# Altium schematic symbol library mmWave_RIS_Lumo.SchLib: 8 symbols
Pins are listed as number, name and electrical type; pins without a type are passive.

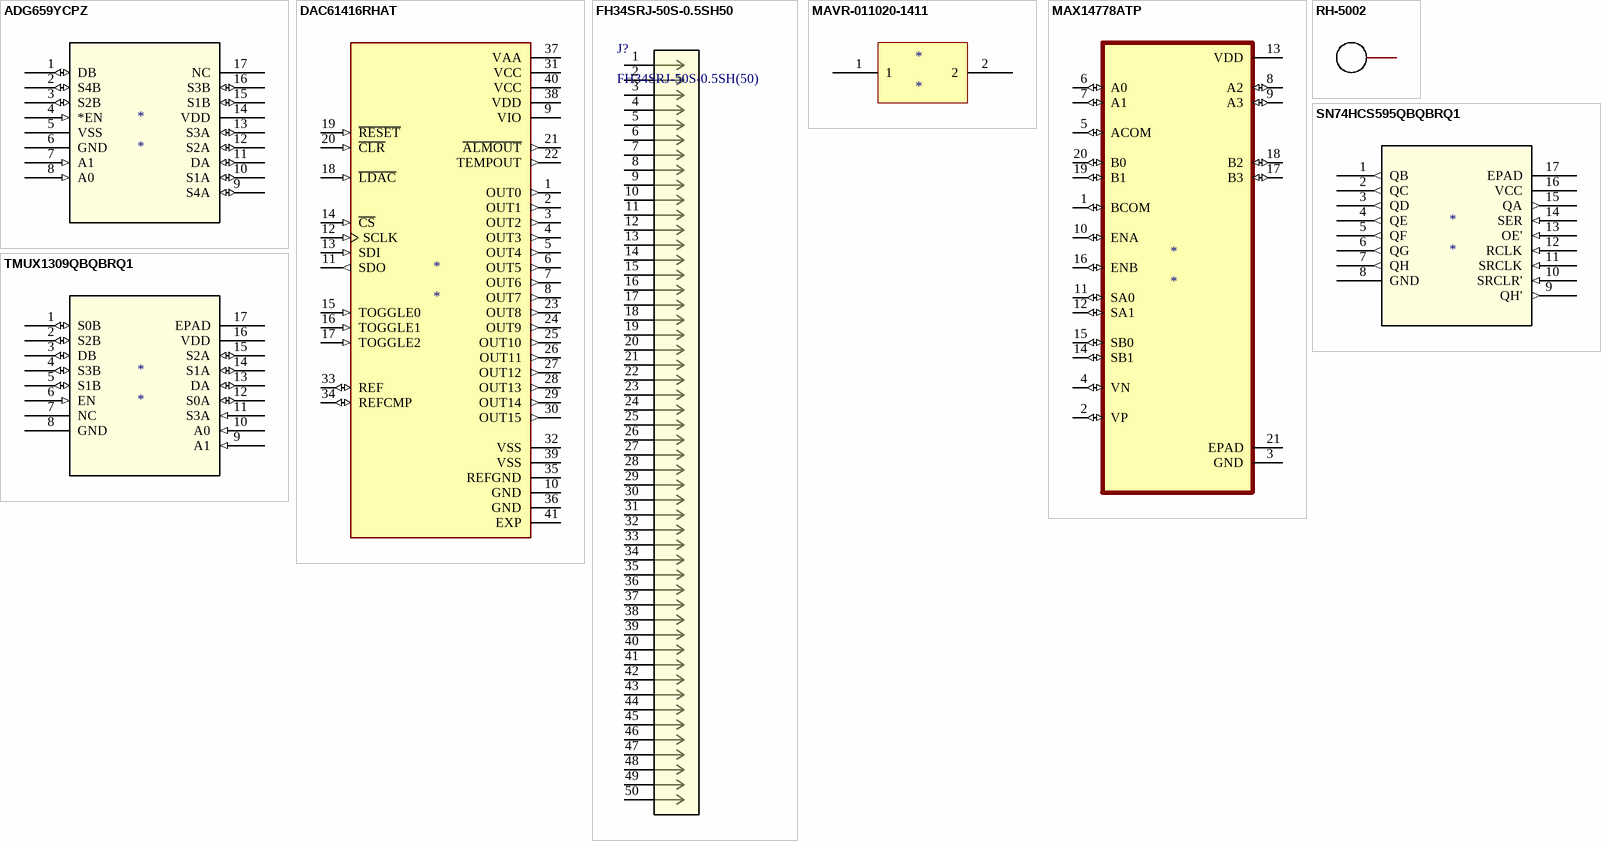
[diagram p0: symbols ADG659YCPZ to TMUX1309QBQBRQ1]

## ADG659YCPZ
designator *
pins: 1 DB (io), 2 S4B (io), 3 S2B (io), 4 *EN (in), 5 VSS (power), 6 GND (power), 7 A1 (in), 8 A0 (in), 9 S4A (io), 10 S1A (io), 11 DA (io), 12 S2A (io), 13 S3A (io), 14 VDD (power), 15 S1B (io), 16 S3B (io), 17 NC

## DAC61416RHAT
designator *
footprint DAC61416RHAT
pins: 1 OUT0 (out), 2 OUT1 (out), 3 OUT2 (out), 4 OUT3 (out), 5 OUT4 (out), 6 OUT5 (out), 7 OUT6 (out), 8 OUT7 (out), 9 VIO (power), 10 GND (power), 11 SDO (out), 12 SCLK (in), 13 SDI (in), 14 ~{CS} (in), 15 TOGGLE0 (in), 16 TOGGLE1 (in), 17 TOGGLE2 (in), 18 ~{LDAC} (in), 19 ~{RESET} (in), 20 ~{CLR} (in), 21 ~{ALMOUT} (out), 22 TEMPOUT (out), 23 OUT8 (out), 24 OUT9 (out), 25 OUT10 (out), 26 OUT11 (out), 27 OUT12 (out), 28 OUT13 (out), 29 OUT14 (out), 30 OUT15 (out), 31 VCC (power), 32 VSS (power), 33 REF (io), 34 REFCMP (io), 35 REFGND (power), 36 GND (power), 37 VAA (power), 38 VDD (power), 39 VSS (power), 40 VCC (power), 41 EXP (power)

## FH34SRJ-50S-0.5SH50
designator J?, comment FH34SRJ-50S-0.5SH(50)
Description; Manufacturer_Name: Hirose; Copyright: Copyright (C) 2025 Ultra Librarian. All rights reserved.; Manufacturer_Part_Number: FH34SRJ-50S-0.5SH(50); RefDes: RefDes; Type: Type
footprint CONN50x1_FH34SRJ-50S-0.5SH50_HIR
pins: 1, 2, 3, 4, 5, 6, 7, 8, 9, 10, 11, 12, 13, 14, 15, 16, 17, 18, 19, 20, 21, 22, 23, 24, 25, 26, 27, 28, 29, 30, 31, 32, 33, 34, 35, 36, 37, 38, 39, 40, 41, 42, 43, 44, 45, 46, 47, 48, 49, 50

## MAVR-011020-1411
designator *
footprint MAVR-011020-1411 (DFN, 2-Leads, Body 0.41x0.76mm, Pitch 0.42mm, IPC Medium Density)
pins: 1, 2

## MAX14778ATP
designator *
footprint MAX14778ATP
pins: 1 BCOM (io), 2 VP (io), 3 GND (power), 4 VN (io), 5 ACOM (io), 6 A0 (io), 7 A1 (io), 8 A2 (io), 9 A3 (io), 10 ENA (io), 11 SA0 (io), 12 SA1 (io), 13 VDD (power), 14 SB1 (io), 15 SB0 (io), 16 ENB (io), 17 B3 (io), 18 B2 (io), 19 B1 (io), 20 B0 (io), 21 EPAD (power)

## RH-5002
designator TP?  (value not drawn)
Manufacturer: 荣和; Add into BOM: yes; Connector Type: Pin Type (Through-Board); Plastic Color: White; Board Space (Diameter φ/ Length x Width): 2.5mm; Symbol: RH-5002; Device: RH-5002; LCSC Part Name: PCB电路板测试点/测试针; Supplier Part: C5199802; Manufacturer Part: RH-5002; Supplier Footprint: -; JLCPCB Part Class: Extended Part; Datasheet: https://item.szlcsc.com/datasheet/RH-5002/5885638.html; Supplier: LCSC; Convert to PCB: yes
footprint TESTPOINT-TH_BD2.5-D1.2_RH-5002
3D model TESTPOINT-TH_BD2.5-D1.2_RH-5002
pins: 1

## SN74HCS595QBQBRQ1
designator *
footprint TMUX1309QBQBRQ1
pins: 1 QB (out), 2 QC (out), 3 QD (out), 4 QE (out), 5 QF (out), 6 QG (out), 7 QH (out), 8 GND (power), 9 QH' (out), 10 SRCLR' (in), 11 SRCLK (in), 12 RCLK (in), 13 OE' (in), 14 SER (in), 15 QA (out), 16 VCC (power), 17 EPAD

## TMUX1309QBQBRQ1
designator *
footprint TMUX1309QBQBRQ1
pins: 1 S0B (io), 2 S2B (io), 3 DB (io), 4 S3B (io), 5 S1B (io), 6 EN (in), 7 NC, 8 GND (power), 9 A1 (in), 10 A0 (in), 11 S3A (in), 12 S0A (io), 13 DA (io), 14 S1A (io), 15 S2A (io), 16 VDD (power), 17 EPAD